# Altium schematic symbol library Demo_XM1.SchLib: 25 symbols
Pins are listed as number, name and electrical type; pins without a type are passive.

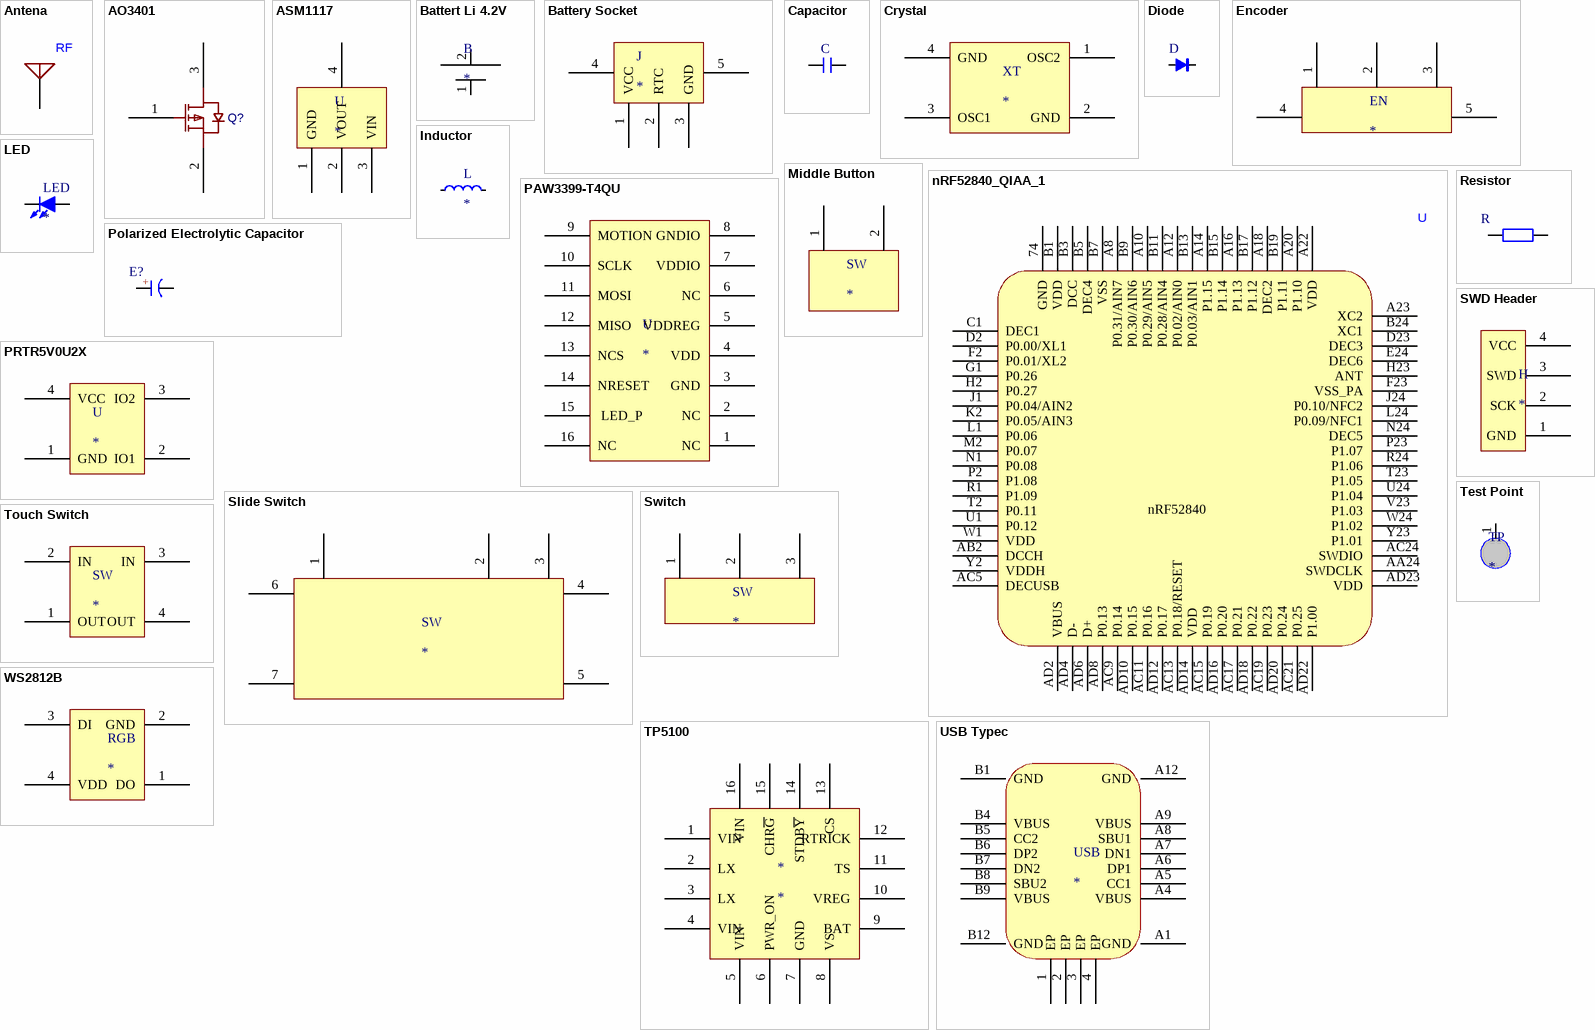
[diagram p0: symbols Antena to WS2812B]

## Antena
designator RF
天线
footprint CrossAir CA-C03
pins: 5

## AO3401
designator Q?
AO3401 PMOS; Manufacturer: TWGMC; Contributor: LCSC; Supplier: LCSC; Supplier Part: C727156; Manufacturer Part: AO3401; JLCPCB Part Class: Extended Part; spicePre: Q; spiceSymbolName: AO3401_C727156
footprint SOT23-3
pins: 1 G, 2 S, 3 D

## ASM1117
designator U
LDO
footprint SOT223
pins: 1 GND, 2 VOUT, 3 VIN, 4 GND

## Battert Li 4.2V
designator B
battery
pins: 1, 2

## Battery Socket
designator J
电池插座
footprint BAT SH1.0
pins: 1 VCC, 2 RTC, 3 GND, 4 GND, 5 GND

## Capacitor
designator C
贴片电容
footprint 0603C
footprint 0402C
footprint 1206C
footprint 0201C
footprint 0805C FOR REPLACE
pins: 1, 2

## Crystal
designator XT
晶振
footprint CRYSTAL FOR XT1
pins: 1 OSC2, 2 GND, 3 OSC1, 4 GND

## Diode
designator D
开关二极管; BOM名称: 肖特基二极管; 版权归属: 源创客; 属性: 100V/5A; 学习资源: www.ooocke.com
footprint 1206D
footprint 0603D
footprint 0402L
footprint 0805D
footprint 0201C
pins: 1 A, 2 K

## Encoder
designator EN
编码器
footprint ENCODER FOP MOUSE
pins: 1, 2, 3, 4, 5

## Inductor
designator L
电感
footprint 0402C
footprint 0201C
footprint 0603C
footprint 0805C
footprint 1206C
footprint 0630
footprint L 1.2*1.7
footprint L 2.8*1.8
footprint L 2.5*1.8
pins: 1, 2

## LED
designator LED
LED
footprint 0402C
footprint 0603c
footprint 0805C FOR REPLACE
footprint 1206c
footprint 0201C
footprint LED2-2R5X3R3-0R8
pins: 1, 2

## Middle Button
designator SW
中键
footprint X5 MIDDLE BOTTOM SET
pins: 1, 2

## nRF52840_QIAA_1
designator U
nRF52840
footprint AQFN50P700X700X85_HS-74N
pins: 74 GND, A8 P0.31/AIN7, A10 P0.29/AIN5, A12 P0.02/AIN0, A14 P1.15, A16 P1.13, A18 DEC2, A20 P1.10, A22 VDD, A23 XC2, AA24 SWDCLK, AB2 DCCH, AC5 DECUSB, AC9 P0.14, AC11 P0.16, AC13 P0.18/RESET, AC15 P0.19, AC17 P0.21, AC19 P0.23, AC21 P0.25, AC24 SWDIO, AD2 VBUS, AD4 D-, AD6 D+, AD8 P0.13, AD10 P0.15, AD12 P0.17, AD14 VDD, AD16 P0.20, AD18 P0.22, AD20 P0.24, AD22 P1.00, AD23 VDD, B1 VDD, B3 DCC, B5 DEC4, B7 VSS, B9 P0.30/AIN6, B11 P0.28/AIN4, B13 P0.03/AIN1, B15 P1.14, B17 P1.12, B19 P1.11, B24 XC1, C1 DEC1, D2 P0.00/XL1, D23 DEC3, E24 DEC6, F2 P0.01/XL2, F23 VSS_PA, G1 P0.26, H2 P0.27, H23 ANT, J1 P0.04/AIN2, J24 P0.10/NFC2, K2 P0.05/AIN3, L1 P0.06, L24 P0.09/NFC1, M2 P0.07, N1 P0.08, N24 DEC5, P2 P1.08, P23 P1.07, R1 P1.09, R24 P1.06, T2 P0.11, T23 P1.05, U1 P0.12, U24 P1.04, V23 P1.03, W1 VDD, W24 P1.02, Y2 VDDH, Y23 P1.01

## PAW3399-T4QU
designator U
PAW3399-T4QU
footprint PAW3399-T4QU
pins: 1 NC, 2 NC, 3 GND, 4 VDD, 5 VDDREG, 6 NC, 7 VDDIO, 8 GNDIO, 9 MOTION, 10 SCLK, 11 MOSI, 12 MISO, 13 NCS, 14 NRESET, 15  LED_P, 16 NC

## Polarized Electrolytic Capacitor
designator E?
直插电解电容; 版权归属: 源创客; BOM名称: 直插电解电容; 学习资源: www.ooocke.com
footprint DIP-EC2.0X5X11
pins: 1 A, 2 K
text: +

## PRTR5V0U2X
designator U
ESD保护二极管
footprint SOT143
pins: 1 GND, 2 IO1, 3 IO2, 4 VCC

## Resistor
designator R
贴片电阻; BOM名称: 贴片电阻
footprint 1206C
footprint 0603C
footprint 0402C
footprint 0805C FOR REPLACE
footprint 0201C
pins: 1, 2

## Slide Switch
designator SW
拨动开关
footprint MSK 12C02
pins: 1, 2, 3, 4, 5, 6, 7

## SWD Header
designator H
SWD烧录接口
footprint CON20VP2R54-1X4TM
pins: 1 GND, 2 SCK, 3 SWD, 4 VCC

## Switch
designator SW
微动
footprint MOUSE SWITCH
pins: 1, 2, 3

## Test Point
designator TP
测试点
pins: 1

## Touch Switch
designator SW
轻触开关
footprint touch switch
footprint touch switch - dey
pins: 1 OUT, 2 IN, 3 IN, 4 OUT

## TP5100
designator *
锂电池充电模块
footprint QFN4X4-16-1
pins: 1 VIN, 2 LX, 3 LX, 4 VIN, 5 VIN, 6 PWR_ON, 7 GND, 8 VS, 9 BAT, 10 VREG, 11 TS, 12 RTRICK, 13 CS, 14 STDB~{Y}, 15 CHR~{G}, 16 VIN

## USB Typec
designator USB
USB TYPEC 接口
footprint USB-C-SMD_KH-TYPE-C-16P
pins: 1 EP, 2 EP, 3 EP, 4 EP, A1 GND, A4 VBUS, A5 CC1, A6 DP1, A7 DN1, A8 SBU1, A9 VBUS, A12 GND, B1 GND, B4 VBUS, B5 CC2, B6 DP2, B7 DN2, B8 SBU2, B9 VBUS, B12 GND

## WS2812B
designator RGB
RGB灯
footprint WS2812-5050
pins: 1 DO, 2 GND, 3 DI, 4 VDD